# Altium schematic symbol library AH3582-P-B.SchLib: 1 symbol
Pins are listed as number, name and electrical type; pins without a type are passive.

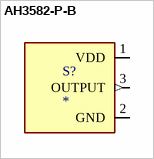
[diagram p0: symbol AH3582-P-B]

## AH3582-P-B
designator S?
HALL OMNIPOLAR SWITCH,SIP-3,BULK; MP: AH3582-P-B; Package: None; Price: None; Value: *; Availability: Unavailable
footprint SIP160W38P127L430H495Q3
pins: 1 VDD (power), 2 GND (power), 3 OUTPUT (out)